# EAGLE library part 2DIMMER (library e-freebus)
2 fach Freebus Dimmer
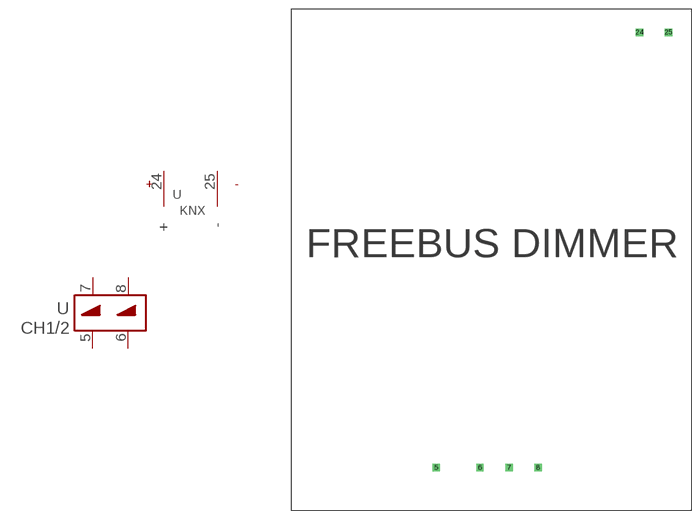
[diagram p3: symbol with the pads of 2DIMMER; footprint 2DIMMER]

Designator prefix -; gates CH1/2=DIMMER G$2=BUS

## 2DIMMER  [2DIMMER]
5  CH1/2:LCH1  pas
6  CH1/2:LCH2  pas
7  CH1/2:LIN  pas
8  CH1/2:NIN  pas
24  G$2:+  in
25  G$2:-  in

## Footprint 2DIMMER (pad centres in mm)
drill 0.8 square: 5 25.4,7.62; 6 33.02,7.62; 7 38.1,7.62; 8 43.18,7.62; 24 60.96,83.82; 25 66.04,83.82